# Altium integrated library 集成库工程.IntLib: 1 symbol
Pins are listed as number, name and electrical type; pins without a type are passive.

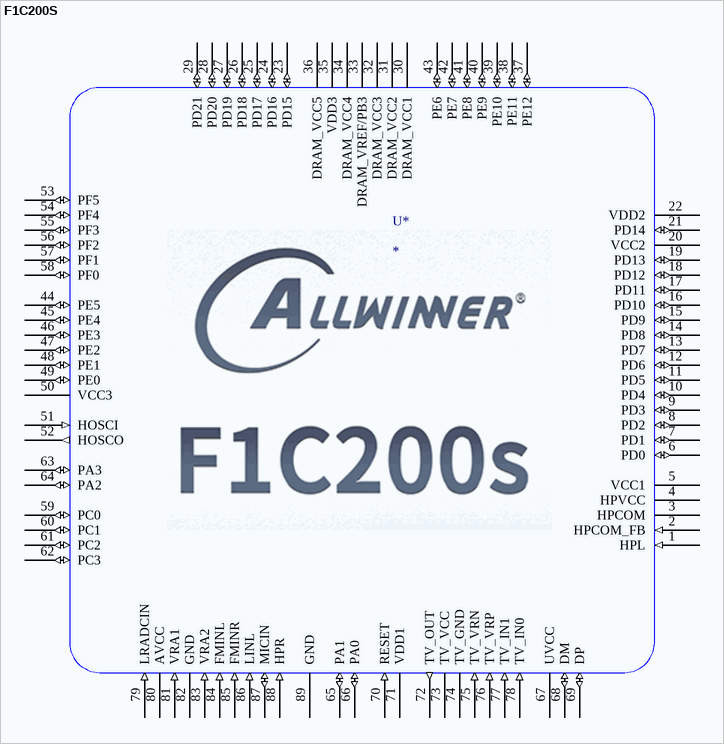
[diagram p0: symbol F1C200S]

## F1C200S
designator U*
F1C200s是全志的一款高度集成、低功耗的移动应用处理器，可用于多种多媒体音视频设备中。基于ARM9架构，集成了DDR。它支持高清视频解码，包括H.264、H.263、MPEG1/2/4等。它还集成了音频编解码器和I2S/PCM接口，以增强用户体验.
footprint QFN88-F1CX00S
pins: 1 HPL (in), 2 HPCOM_FB (in), 3 HPCOM (power), 4 HPVCC (power), 5 VCC1 (power), 6 PD0 (io) "LCD_D2", 7 PD1 (io) "LCD_D3", 8 PD2 (io) "LCD_D4", 9 PD3 (io) "LCD_D5", 10 PD4 (io) "LCD_D6", 11 PD5 (io) "LCD_D7", 12 PD6 (io) "LCD_D10", 13 PD7 (io) "LCD_D11", 14 PD8 (io) "LCD_D12", 15 PD9 (io) "LCD_D13", 16 PD10 (io) "LCD_D14", 17 PD11 (io) "LCD_D15", 18 PD12 (io) "LCD_D18", 19 PD13 (io) "LCD_D19", 20 VCC2 (power), 21 PD14 (io) "LCD_D20", 22 VDD2 (power), 23 PD15 (io) "LCD_D21", 24 PD16 (io) "LCD_D22", 25 PD17 (io) "LCD_D23", 26 PD18 (io) "LCD_CLK", 27 PD19 (io) "LCD_DE", 28 PD20 (io) "LCD_HSYNC", 29 PD21 (io) "LCD_VSYNC", 30 DRAM_VCC1 (power), 31 DRAM_VCC2 (power), 32 DRAM_VCC3 (power), 33 DRAM_VREF/PB3 (power), 34 DRAM_VCC4 (power), 35 VDD3 (power), 36 DRAM_VCC5 (power), 37 PE12 (io) "DA_MCLK", 38 PE11 (io) "CLK_OUT", 39 PE10 (io) "CSI_D7", 40 PE9 (io) "CSI_D6", 41 PE8 (io) "CSI_D5", 42 PE7 (io) "CSI_D4", 43 PE6 (io) "CSI_D3", 44 PE5 (io) "CSI_D2", 45 PE4 (io) "CSI_D1", 46 PE3 (io) "CSI_D0", 47 PE2 (io) "CSI_PCLK", 48 PE1 (io) "CSI_VSYNC", 49 PE0 (io) "CSI_HSYNC", 50 VCC3 (power), 51 HOSCI (in), 52 HOSCO (out), 53 PF5 (io) "SDC0_D2", 54 PF4 (io) "SDC0_D3", 55 PF3 (io) "SDC0_CMD", 56 PF2 (io) "SDC0_CLK", 57 PF1 (io) "SDC0_D0", 58 PF0 (io) "SDC0_D1", 59 PC0 (io) "SPI0_CLK", 60 PC1 (io) "SPI0_CS", 61 PC2 (io) "SPI0_MISO", 62 PC3 (io) "SPI0_MOSI", 63 PA3 (io) "TP_Y2", 64 PA2 (io) "TP_Y1", 65 PA1 (io) "TP_X2", 66 PA0 (io) "TP_X1", 67 UVCC (power), 68 DM (io), 69 DP (io), 70 RESET (in), 71 VDD1 (power), 72 TV_OUT (out), 73 TV_VCC (power), 74 TV_GND (power), 75 TV_VRN (in), 76 TV_VRP (in), 77 TV_IN1 (in), 78 TV_IN0 (in), 79 LRADCIN (in), 80 AVCC (power), 81 VRA1 (in), 82 GND (power), 83 VRA2 (in), 84 FMINL (in), 85 FMINR (in), 86 LINL (in), 87 MICIN (io), 88 HPR (in), 89 GND (power)